# Altium footprint library PCB3.PcbLib: 14 footprints
Each footprint in its own frame and in the unit in brackets; x right, y up, seen from the top. Pads: shape width x height; smd on the part's side, far side on the other; paste and mask are expansions set on the pad; w line width, h text height; cw(c..) or ccw(c..) is an arc to the next point about the centre after c.
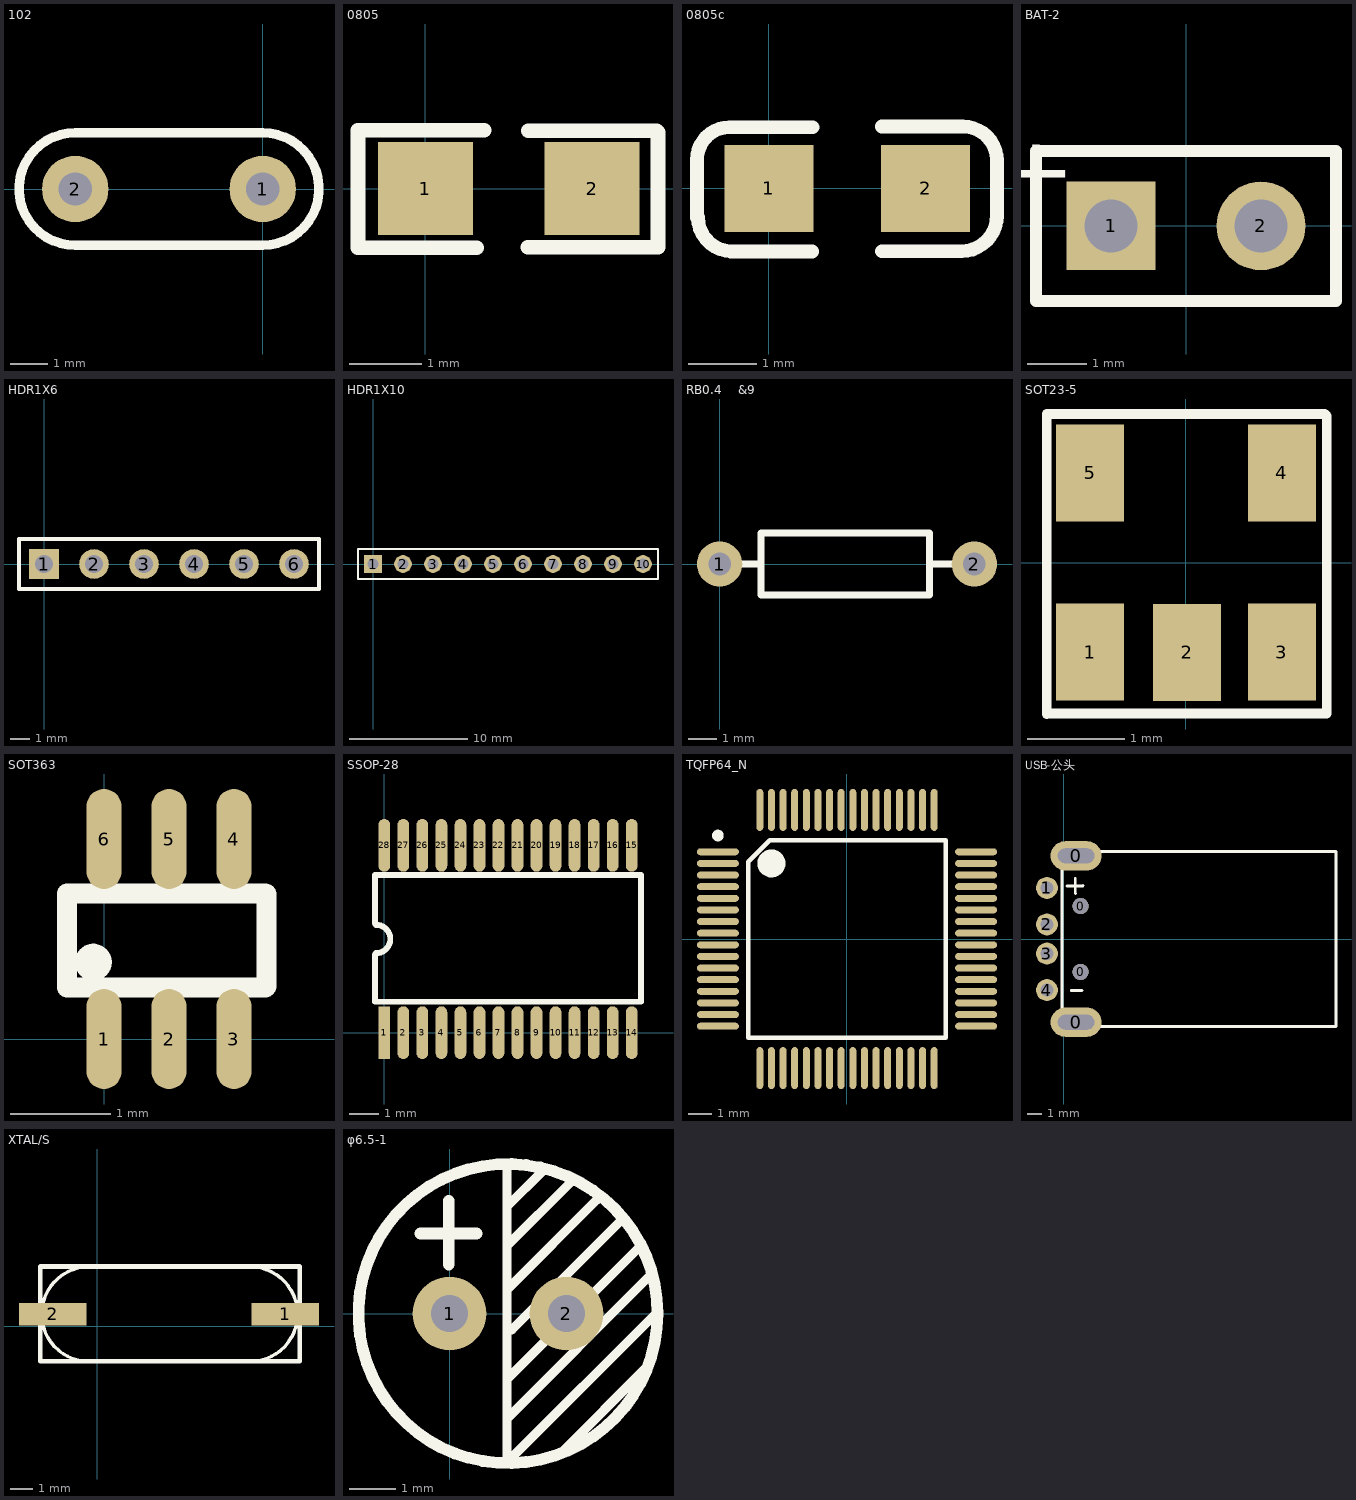
[diagram p0: the footprints below, top view; thin cyan lines are the x and y axes]

## 102 [mm]
height 4.65
pads (2):
  round 1.8 hole 0.9: 1(0,0) 2(-5.08,0)
Top Overlay:
  lines w0.254: -5.08,-1.524 cw(c-5.08,0) -5.08,1.524 0,1.524 cw(c0,0) 0,-1.524 -5.08,-1.524

## 0805 [mm] "Chip Resistor; Body 2.0 x 1.3 mm (LxW typ)"
height 2.54
pads (2):
  rect 1.3x1.27 smd: 1(0,0) 2(2.286,0)
Top Overlay:
  lines w0.1: 3.173,0.79 3.191,0.772
  lines w0.2: 0.704,-0.812 -0.925,-0.812 -0.925,0.799 0.809,0.799 ; 1.404,-0.803 3.191,-0.803 3.191,0.772 ; 1.409,0.79 3.173,0.79

## 0805c [mm]
height 4.65
pads (2):
  rect 1.3x1.27 smd: 1(0,0) 2(2.286,0)
Top Overlay:
  lines w0.2: -1.051,-0.43 -1.051,0.419 cw(c-0.577,0.419) -0.577,0.893 0.635,0.893 ; -1.036,-0.424 ccw(c-0.544,-0.424) -0.544,-0.916 ; -0.559,-0.922 0.632,-0.922 ; 1.651,-0.916 2.81,-0.916 ccw(c2.81,-0.397) 3.329,-0.397 3.329,0.407 ccw(c2.831,0.407) 2.831,0.905 1.651,0.905

## BAT-2 [mm] "Multicell Battery; 2 Leads"
height 4.65
pads (2):
  rect 1.5x1.5 hole 0.9: 1(-1.27,0)
  round 1.5 hole 0.9: 2(1.27,0)
Top Overlay:
  lines w0.2: -2.54,-1.27 2.54,-1.27 2.54,1.27 -2.54,1.27 -2.54,-1.27
  text "+" at -1.88,1.372 h1.15

## HDR1X6 [mm]
height 4.65
pads (6):
  rect 1.5x1.5 hole 0.9: 1(0,0)
  round 1.5 hole 0.9: 2(2.54,0) 3(5.08,0) 4(7.62,0) 5(10.16,0) 6(12.7,0)
Top Overlay:
  lines w0.2: -1.27,-1.27 -1.27,1.27 13.97,1.27 13.97,-1.27 -1.27,-1.27

## HDR1X10 [mm]
height 4.65
pads (10):
  rect 1.5x1.5 hole 0.9: 1(0,0)
  round 1.5 hole 0.9: 2(2.54,0) 3(5.08,0) 4(7.62,0) 5(10.16,0) 6(12.7,0) 7(15.24,0) 8(17.78,0) 9(20.32,0) 10(22.86,0)
Top Overlay:
  lines w0.2: -1.27,-1.27 24.13,-1.27 24.13,1.27 0.635,1.27 -1.27,1.27 -1.27,-1.27

## RB0.4    &9 [mm]
height 4.65
pads (2):
  round 1.6 hole 0.8: 1(0,0) 2(9,0)
Top Overlay:
  lines w0.254: -0.5,0 1.455,0 ; 7.45,0 8.5,0 ; 1.46,-1.1 1.46,1.1 7.415,1.1 7.415,-1.1 1.46,-1.1

## SOT23-5 [mm]
height 4.65
pads (5):
  rect 0.7x1 smd: 1(-0.99,-0.924) 2(0.011,-0.926) 3(0.99,-0.924) 4(0.99,0.927) 5(-0.99,0.927)
Top Overlay:
  lines w0.1: 1.451,-1.556 -1.432,-1.556 -1.438,-1.562 -1.438,1.534 1.433,1.534 1.451,1.516 1.451,-1.542

## SOT363 [mm]
height 4.65
pads (6):
  oval 0.35x1 smd: 1(0,0) 2(0.65,0) 3(1.3,0) 4(1.3,2) 5(0.65,2) 6(0,2)
Top Overlay:
  circle w0.2: c-0.107,0.768 r0.085
  lines w0.2: -0.368,0.516 -0.368,1.457 1.617,1.457 1.626,1.448 1.626,0.526 1.616,0.516 -0.359,0.516

## SSOP-28 [mm]
height 4.65
pads (28):
  rect 0.4x1.8 smd: 1(0,0)
  oval 0.4x1.8 smd: 2(0.65,0) 3(1.3,0) 4(1.95,0) 5(2.6,0) 6(3.25,0) 7(3.9,0) 8(4.55,0) 9(5.2,0) 10(5.85,0) 11(6.5,0) 12(7.15,0) 13(7.8,0) 14(8.45,0) 15(8.45,6.4) 16(7.8,6.4) 17(7.15,6.4) 18(6.5,6.4) 19(5.85,6.4) 20(5.2,6.4) 21(4.55,6.4) 22(3.9,6.4) 23(3.25,6.4) 24(2.6,6.4) 25(1.95,6.4) 26(1.3,6.4) 27(0.65,6.4) 28(0,6.4)
Top Overlay:
  lines w0.2: -0.325,2.672 -0.325,1.057 8.775,1.057 8.775,5.381 -0.325,5.381 -0.325,3.729 ; -0.279,2.718 ccw(c-0.279,3.2) -0.279,3.683

## TQFP64_N [mm]
pads (64):
  oval 1.8x0.3 smd: 1(-5.55,3.75) 2(-5.55,3.25) 3(-5.55,2.75) 4(-5.55,2.25) 5(-5.55,1.75) 6(-5.55,1.25) 7(-5.55,0.75) 8(-5.55,0.25) 9(-5.55,-0.25) 10(-5.55,-0.75) 11(-5.55,-1.25) 12(-5.55,-1.75) 13(-5.55,-2.25) 14(-5.55,-2.75) 15(-5.55,-3.25) 16(-5.55,-3.75) 33(5.55,-3.75) 34(5.55,-3.25) 35(5.55,-2.75) 36(5.55,-2.25) 37(5.55,-1.75) 38(5.55,-1.25) 39(5.55,-0.75) 40(5.55,-0.25) 41(5.55,0.25) 42(5.55,0.75) 43(5.55,1.25) 44(5.55,1.75) 45(5.55,2.25) 46(5.55,2.75) 47(5.55,3.25) 48(5.55,3.75)
  oval 0.3x1.8 smd: 17(-3.75,-5.55) 18(-3.25,-5.55) 19(-2.75,-5.55) 20(-2.25,-5.55) 21(-1.75,-5.55) 22(-1.25,-5.55) 23(-0.75,-5.55) 24(-0.25,-5.55) 25(0.25,-5.55) 26(0.75,-5.55) 27(1.25,-5.55) 28(1.75,-5.55) 29(2.25,-5.55) 30(2.75,-5.55) 31(3.25,-5.55) 32(3.75,-5.55) 49(3.75,5.55) 50(3.25,5.55) 51(2.75,5.55) 52(2.25,5.55) 53(1.75,5.55) 54(1.25,5.55) 55(0.75,5.55) 56(0.25,5.55) 57(-0.25,5.55) 58(-0.75,5.55) 59(-1.25,5.55) 60(-1.75,5.55) 61(-2.25,5.55) 62(-2.75,5.55) 63(-3.25,5.55) 64(-3.75,5.55)
Top Overlay:
  circle w0.6: c-3.25,3.25 r0.3
  circle w0.25: c-5.55,4.45 r0.125
  lines w0.2: -4.25,-4.25 4.25,-4.25 4.25,4.25 -3.325,4.25 -4.25,3.325 -4.25,-4.25

## USB-公头 [mm]
height 4.65
pads (8):
  oval 3.5x2 hole 1 slot 2.5 at 0 deg: 0(0.85,-5.7) 0(0.85,5.7)
  round 1.1 hole 1.1: 0(1.15,-2.25) 0(1.15,2.25)
  round 1.5 hole 0.9: 1(-1.15,3.5) 2(-1.15,1) 3(-1.15,-1) 4(-1.15,-3.5)
Top Overlay:
  lines w0.2: -0.15,-6 18.65,-6 18.65,6 -0.15,6 ; -0.113,-6 -0.113,6 ; 0.215,3.642 1.302,3.642 1.323,3.663 ; 0.513,-3.517 1.259,-3.517 ; 0.79,4.153 0.79,3.152 0.812,3.13

## XTAL/S [mm]
height 4.65
pads (2):
  rect 3x1 smd: 1(8.334,0.532) 2(-1.966,0.532)
Top Overlay:
  lines w0.152: -0.862,-1.558 6.284,-1.558 ; -0.862,2.642 6.284,2.642 ; -0.362,-1.568 cw(c-0.362,0.532) -0.362,2.632 ; 6.784,-1.568 ccw(c6.784,0.532) 6.784,2.632
  lines w0.203: -2.516,-1.558 -2.516,2.642 8.984,2.642 8.984,-1.558 -2.516,-1.558

## φ6.5-1 [mm]
height 4.65
pads (2):
  round 1.6 hole 0.8: 1(0,0) 2(2.54,0)
Top Overlay:
  circle w0.254: c1.27,0 r3.25
  lines w0.2: 1.246,-0.352 1.35,-0.352 3.772,2.07 ; 1.246,0.574 1.303,0.574 3.202,2.473 ; 1.246,1.464 1.246,1.467 2.632,2.853 ; 1.246,2.319 2.03,3.102 2.039,3.102 ; 1.246,3.225 1.246,-3.253 1.262,-3.269 ; 1.258,-2.272 4.331,0.801 ; 1.258,-1.42 4.165,1.487 ; 1.315,-3.165 4.5,0.02 ; 2.434,-3.019 4.258,-1.195
  lines w0.254: -0.63,1.74 0.585,1.74 ; -0.015,1.065 -0.015,2.45